# EAGLE library part XIAO-THRUHOLE (library Seeed Studio XIAO Series)
Seeed Studio XIAO Series Through-hole Footprint and Symbol Basic through-hole footprint for Seeed XIAO series of boards. The underside surface mount pads are disabled. For through-hole mounting, a pair of 7-pin, 2.54mm pitch headers with 0.64x0.64mm square leads are recommended. The hybrid variant allows the assembler to choose between surface mount and through-hole mounting methods. However, there is a risk of solder leakage and therefore insufficient solder at the joints if soldering using solder paste and stencils, so we advise using this footprint only when the module is intended to be hand soldered. The symbol pin labels are generic. Please refer to the specific board for more information. Seeed Studio XIAO SAMD21 (Seeeduino XIAO) is also available pre-soldered: Seeed Studio XIAO SAMD21 Pre-soldered - Microchip ATSAMD21G18 Arduino Microcontroller with headers Seeed SKU: 102010388 Buy now <https://www.seeedstudio.com/Seeeduino-XIAO-Pre-Soldered-p-4747.html>
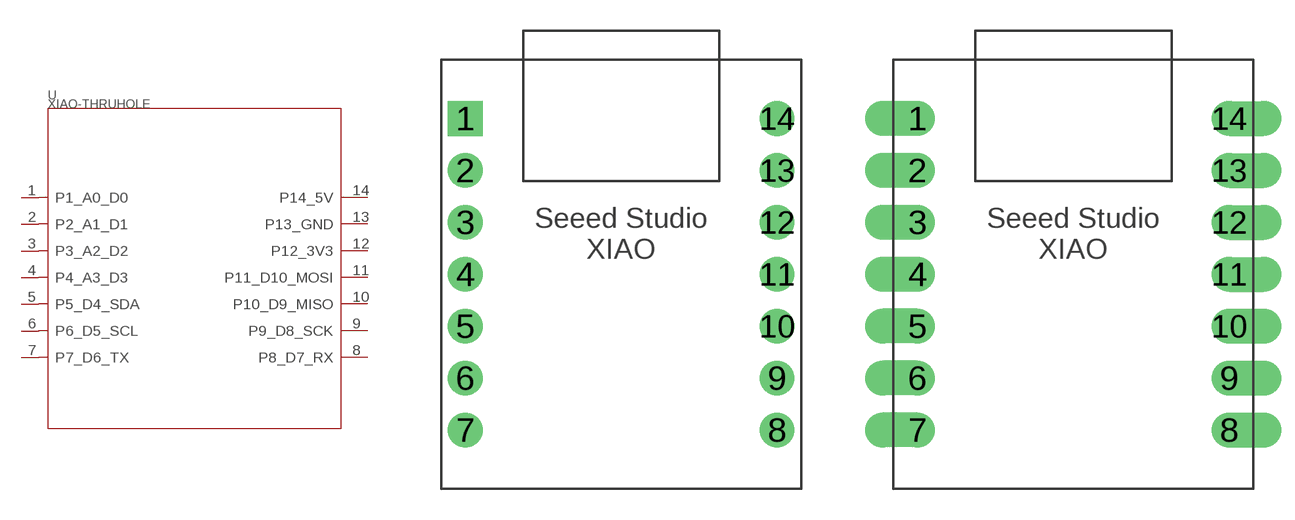
[diagram p5: symbol with the pads of XIAO-GENERIC-THRUHOLE-MODULE14P-2.54-21X17.8MM; footprints XIAO-GENERIC-THRUHOLE-MODULE14P-2.54-21X17.8MM, XIAO-GENERIC-HYBRID-MODULE14P-2.54-21X17.8MM]

Designator prefix U

## XIAO-THRUHOLE  [XIAO-GENERIC-THRUHOLE-MODULE14P-2.54-21X17.8MM]
1  P1_A0_D0
2  P2_A1_D1
3  P3_A2_D2
4  P4_A3_D3
5  P5_D4_SDA
6  P6_D5_SCL
7  P7_D6_TX
8  P8_D7_RX
9  P9_D8_SCK
10  P10_D9_MISO
11  P11_D10_MOSI
12  P12_3V3
13  P13_GND
14  P14_5V

## XIAO-THRUHOLEHYBRID-SMT-THT  [XIAO-GENERIC-HYBRID-MODULE14P-2.54-21X17.8MM]
Pads as for XIAO-GENERIC-THRUHOLE-MODULE14P-2.54-21X17.8MM

## Footprint XIAO-GENERIC-THRUHOLE-MODULE14P-2.54-21X17.8MM (pad centres in mm)
drill 1 pad 1.7 square: 1 -7.62,7.62
drill 1 pad 1.7: 2 -7.62,5.08; 3 -7.62,2.54; 4 -7.62,0; 5 -7.62,-2.54; 6 -7.62,-5.08; 7 -7.62,-7.62; 8 7.62,-7.62; 9 7.62,-5.08; 10 7.62,-2.54; 11 7.62,0; 12 7.62,2.54; 13 7.62,5.08; 14 7.62,7.62

## Footprint XIAO-GENERIC-HYBRID-MODULE14P-2.54-21X17.8MM (pad centres in mm)
drill 1 pad 1.7 offset: 1 -7.62,7.62; 2 -7.62,5.08; 3 -7.62,2.54; 4 -7.62,0; 5 -7.62,-2.54; 6 -7.62,-5.08; 7 -7.62,-7.62; 8 7.62,-7.62; 9 7.62,-5.08; 10 7.62,-2.54; 11 7.62,0; 12 7.62,2.54; 13 7.62,5.08; 14 7.62,7.62